# Altium footprint library CAP-V5.PcbLib: 1 footprints
Each footprint in its own frame and in the unit in brackets; x right, y up, seen from the top. Pads: shape width x height; smd on the part's side, far side on the other; paste and mask are expansions set on the pad; w line width, h text height; cw(c..) or ccw(c..) is an arc to the next point about the centre after c.
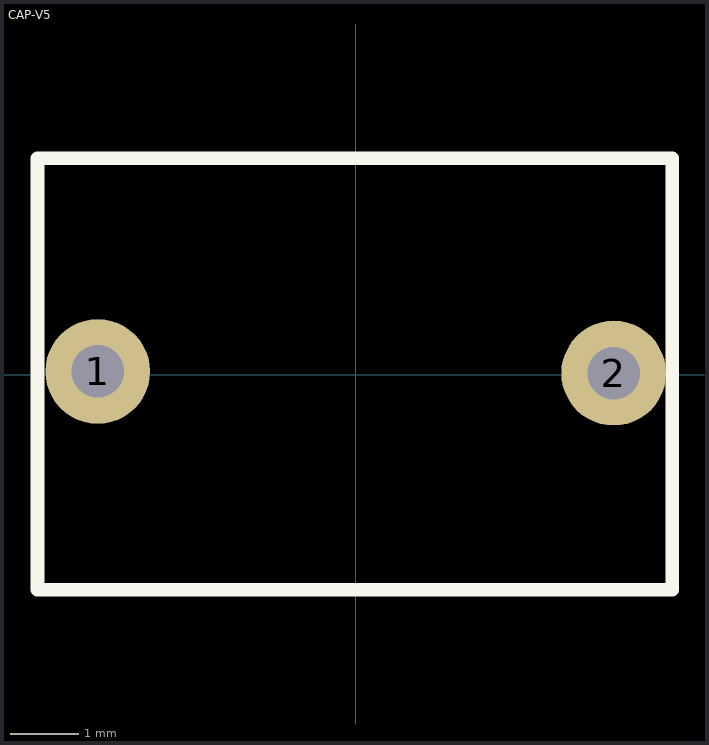
[diagram p0: the footprint, top view; thin cyan lines are the x and y axes]

## CAP-V5 [mil]
height 37.4
pads (2):
  round 60 hole 30: 1(-147.64,1.97) 2(147.64,0.98)
Top Overlay:
  lines w7.87: -182.09,-123.03 -182.09,124.02 181.1,124.02 181.1,-123.03 -182.09,-123.03
Top Assembly:
  lines w3.94: -183.07,-122.05 181.1,-122.05 181.1,123.03 -183.07,123.03 -183.07,-122.05
  text "'.Designator'" at -36.42,-12.8 h27.56
3D body "CK45-E3DD222ZYGNA.step": height 629.92, standoff -905.51, extent -177.17,-117.85 177.17,117.85